# EAGLE library part LMP7702 (library HAB)
LMP7702 Precision, CMOS Input, RRIO, Wide Supply Range Amplifiers
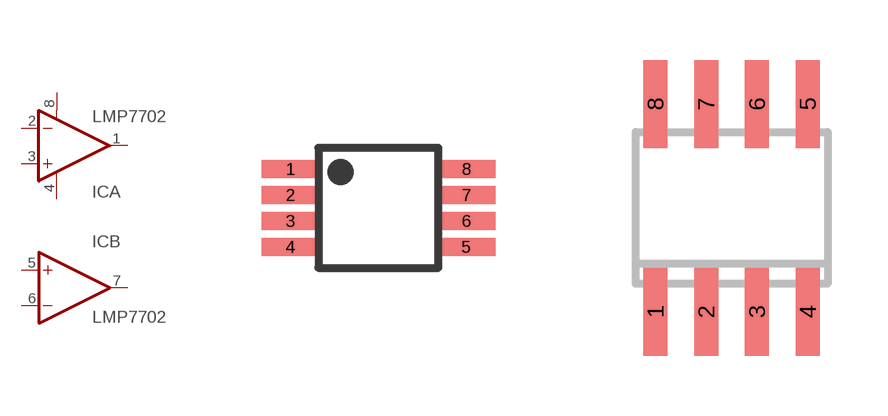
[diagram p18: symbol with the pads of VSSOP8; footprints VSSOP8, SO08]

Designator prefix IC; gates A=OP-AMP+- B=OP-AMP

## LMP7702VSSOP  [VSSOP8]
1  A:OUT  out
2  A:-IN  in
3  A:+IN  in
4  A:V-  pwr
5  B:+IN  in
6  B:-IN  in
7  B:OUT  out
8  A:V+  pwr

## LMP7702SO  [SO08]
Pads as for VSSOP8

## Footprint VSSOP8 (pad centres in mm)
Plastic Small Outline
smd 1.45 x 0.45: 1 -2.2,0.975; 2 -2.2,0.325; 3 -2.2,-0.325; 4 -2.2,-0.975; 5 2.2,-0.975; 6 2.2,-0.325; 7 2.2,0.325; 8 2.2,0.975

## Footprint SO08 (pad centres in mm)
SMALL OUTLINE INTEGRATED CIRCUIT body 3.9 mm/JEDEC MS-012AA
smd 0.6 x 2.2: 1 -1.905,-2.6; 2 -0.635,-2.6; 3 0.635,-2.6; 4 1.905,-2.6; 5 1.905,2.6; 6 0.635,2.6; 7 -0.635,2.6; 8 -1.905,2.6